# EAGLE library part DATA_LOGGER (library RLEG-library)
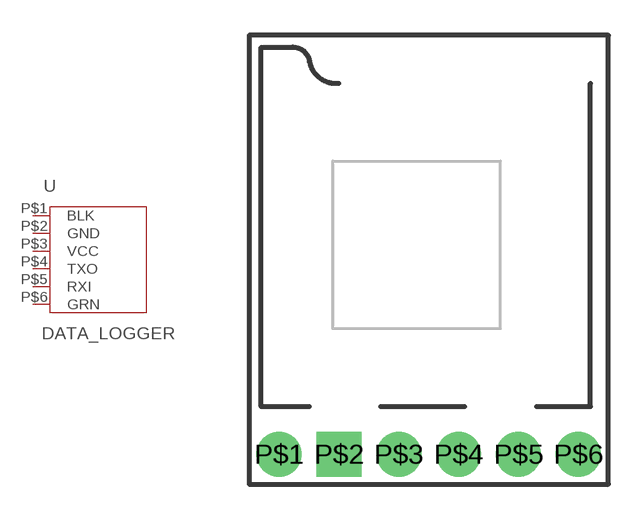
[diagram p3: symbol with the pads of DATA_LOGGER; footprint DATA_LOGGER]

Designator prefix -

## DATA_LOGGER  [DATA_LOGGER]
P$1  BLK  sup
P$2  GND  pwr
P$3  VCC  pwr
P$4  TXO  out
P$5  RXI  in
P$6  GRN  in

## Footprint DATA_LOGGER (pad centres in mm)
drill 1.016 pad 1.905: P$1 1.27,1.27; P$3 6.35,1.27; P$4 8.89,1.27; P$5 11.43,1.27; P$6 13.97,1.27
drill 1.016 pad 1.905 square: P$2 3.81,1.27